# EAGLE library part ADUM4160 (library RalimTek)
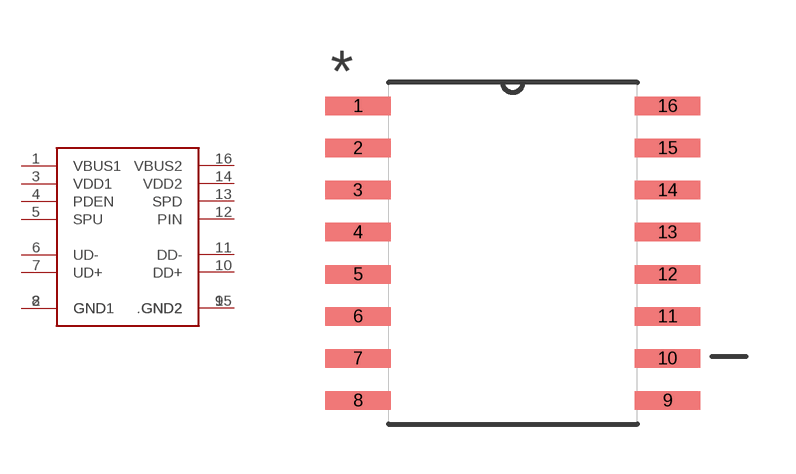
[diagram p7: symbol with the pads of SOIC127P1030X265-16N; footprint SOIC127P1030X265-16N]

Designator prefix -

## ADUM4160  [SOIC127P1030X265-16N]
1  VBUS1
2  GND
3  VDD1
4  PDEN
5  SPU
6  UD-
7  UD+
8  GND1
9  GND2
10  DD+
11  DD-
12  PIN
13  SPD
14  VDD2
15  .GND2
16  VBUS2

## Footprint SOIC127P1030X265-16N (pad centres in mm)
smd 1.981 x 0.559: 1 -4.674,4.445; 2 -4.674,3.175; 3 -4.674,1.905; 4 -4.674,0.635; 5 -4.674,-0.635; 6 -4.674,-1.905; 7 -4.674,-3.175; 8 -4.674,-4.445; 9 4.674,-4.445; 10 4.674,-3.175; 11 4.674,-1.905; 12 4.674,-0.635; 13 4.674,0.635; 14 4.674,1.905; 15 4.674,3.175; 16 4.674,4.445